# EAGLE library part LTC4412 (library linear-technology-priv)
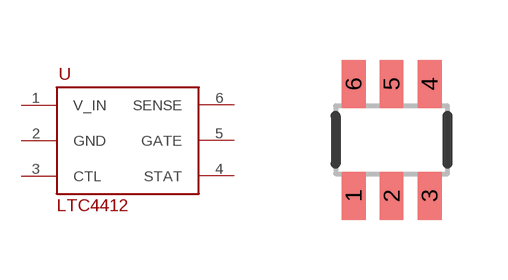
[diagram p0: symbol with the pads of TSOT-23; footprint TSOT-23]

Designator prefix -

## LTC4412TSOT-23  [TSOT-23]
1  V_IN  pwr
2  GND  pwr
3  CTL  in
4  STAT  out
5  GATE  out
6  SENSE

## Footprint TSOT-23 (pad centres in mm)
smd 0.6 x 1.2: 1 -0.95,-1.4; 2 0,-1.4; 3 0.95,-1.4; 4 0.95,1.4; 5 0,1.4; 6 -0.95,1.4